# EAGLE library part LTM4609MPV#PBF (library gwu_mpnl_ucat_v10)
Per LTC Datasheet 4609fe LTM4609 (c) Samudra Haque, N3RDX, 2/23/2014
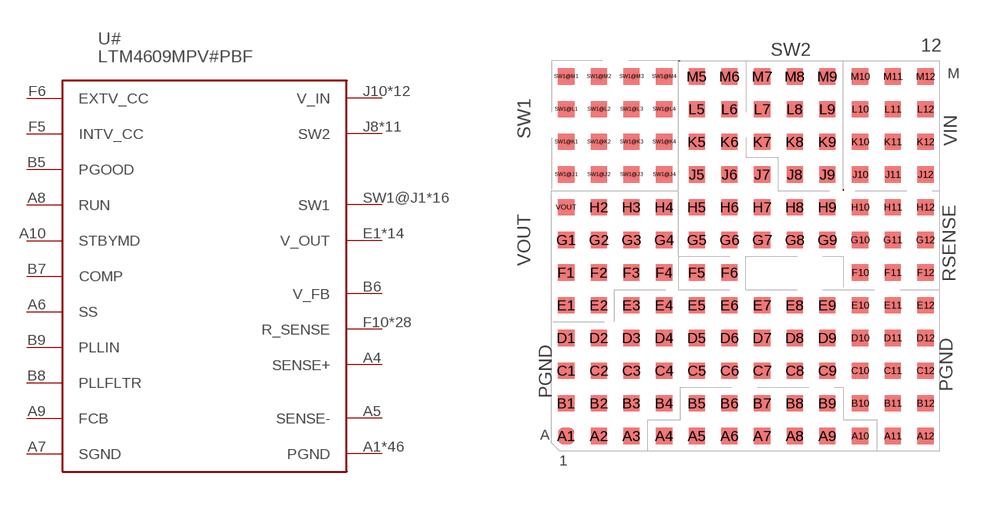
[diagram p3: symbol with the pads of LGA-141-LTC-05-08-1840-B; footprint LGA-141-LTC-05-08-1840-B]

Designator prefix U#

## LTM4609MPV#PBFROHS/HITEMP  [LGA-141-LTC-05-08-1840-B]
A1  PGND
A2  PGND
A3  PGND
A4  SENSE+
A5  SENSE-
A6  SS
A7  SGND
A8  RUN
A9  FCB
A10  STBYMD
A11  PGND
A12  PGND
B1  PGND
B2  PGND
B3  PGND
B4  PGND
B5  PGOOD
B6  V_FB
B7  COMP
B8  PLLFLTR
B9  PLLIN
B10  PGND
B11  PGND
B12  PGND
C1  PGND
C2  PGND
C3  PGND
C4  PGND
C5  PGND
C6  PGND
C7  PGND
C8  PGND
C9  PGND
C10  PGND
C11  PGND
C12  PGND
D1  PGND
D2  PGND
D3  PGND
D4  PGND
D5  PGND
D6  PGND
D7  PGND
D8  PGND
D9  PGND
D10  PGND
D11  PGND
D12  PGND
E1  V_OUT
E2  V_OUT
E3  PGND
E4  PGND
E5  PGND
E6  PGND
E7  PGND
E8  PGND
E9  PGND
E10  PGND
E11  PGND
E12  PGND
F1  V_OUT
F2  V_OUT
F3  V_OUT
F4  V_OUT
F5  INTV_CC
F6  EXTV_CC
F10  R_SENSE
F11  R_SENSE
F12  R_SENSE
G1  V_OUT
G2  V_OUT
G3  V_OUT
G4  V_OUT
G5  R_SENSE
G6  R_SENSE
G7  R_SENSE
G8  R_SENSE
G9  R_SENSE
G10  R_SENSE
G11  R_SENSE
G12  R_SENSE
H2  V_OUT
H3  V_OUT
H4  V_OUT
H5  R_SENSE
H6  R_SENSE
H7  R_SENSE
H8  R_SENSE
H9  R_SENSE
H10  R_SENSE
H11  R_SENSE
H12  R_SENSE
J5  R_SENSE
J6  R_SENSE
J7  R_SENSE
J8  SW2
J9  SW2
J10  V_IN
J11  V_IN
J12  V_IN
K5  R_SENSE
K6  R_SENSE
K7  SW2
K8  SW2
K9  SW2
K10  V_IN
K11  V_IN
K12  V_IN
L5  R_SENSE
L6  R_SENSE
L7  SW2
L8  SW2
L9  SW2
L10  V_IN
L11  V_IN
L12  V_IN
M5  R_SENSE
M6  R_SENSE
M7  SW2
M8  SW2
M9  SW2
M10  V_IN
M11  V_IN
M12  V_IN
SW1@J1  SW1
SW1@J2  SW1
SW1@J3  SW1
SW1@J4  SW1
SW1@K1  SW1
SW1@K2  SW1
SW1@K3  SW1
SW1@K4  SW1
SW1@L1  SW1
SW1@L2  SW1
SW1@L3  SW1
SW1@L4  SW1
SW1@M1  SW1
SW1@M2  SW1
SW1@M3  SW1
SW1@M4  SW1
VOUT  V_OUT

## Footprint LGA-141-LTC-05-08-1840-B (pad centres in mm)
smd 0.63 x 0.63: A1 0.567,0.565; A2 1.837,0.565; A3 3.107,0.565; A4 4.377,0.565; A5 5.647,0.565; A6 6.917,0.565; A7 8.187,0.565; A8 9.457,0.565; A9 10.727,0.565; A10 11.997,0.565; A11 13.267,0.565; A12 14.537,0.565; B1 0.567,1.835; B2 1.837,1.835; B3 3.107,1.835; B4 4.377,1.835; B5 5.647,1.835; B6 6.917,1.835; B7 8.187,1.835; B8 9.457,1.835; B9 10.727,1.835; B10 11.997,1.835; B11 13.267,1.835; B12 14.537,1.835; C1 0.567,3.105; C2 1.837,3.105; C3 3.107,3.105; C4 4.377,3.105; C5 5.647,3.105; C6 6.917,3.105; C7 8.187,3.105; C8 9.457,3.105; C9 10.727,3.105; C10 11.997,3.105; C11 13.267,3.105; C12 14.537,3.105; D1 0.567,4.375; D2 1.837,4.375; D3 3.107,4.375; D4 4.377,4.375; D5 5.647,4.375; D6 6.917,4.375; D7 8.187,4.375; D8 9.457,4.375; D9 10.727,4.375; D10 11.997,4.375; D11 13.267,4.375; D12 14.537,4.375; E1 0.567,5.645; E2 1.837,5.645; E3 3.107,5.645; E4 4.377,5.645; E5 5.647,5.645; E6 6.917,5.645; E7 8.187,5.645; E8 9.457,5.645; E9 10.727,5.645; E10 11.997,5.645; E11 13.267,5.645; E12 14.537,5.645; F1 0.567,6.915; F2 1.837,6.915; F3 3.107,6.915; F4 4.377,6.915; F5 5.647,6.915; F6 6.917,6.915; F10 11.997,6.915; F11 13.267,6.915; F12 14.537,6.915; G1 0.567,8.185; G2 1.837,8.185; G3 3.107,8.185; G4 4.377,8.185; G5 5.647,8.185; G6 6.917,8.185; G7 8.187,8.185; G8 9.457,8.185; G9 10.727,8.185; G10 11.997,8.185; G11 13.267,8.185; G12 14.537,8.185; H2 1.837,9.455; H3 3.107,9.455; H4 4.377,9.455; H5 5.647,9.455; H6 6.917,9.455; H7 8.187,9.455; H8 9.457,9.455; H9 10.727,9.455; H10 11.997,9.455; H11 13.267,9.455; H12 14.537,9.455; J5 5.647,10.725; J6 6.917,10.725; J7 8.187,10.725; J8 9.457,10.725; J9 10.727,10.725; J10 11.997,10.725; J11 13.267,10.725; J12 14.537,10.725; K5 5.647,11.995; K6 6.917,11.995; K7 8.187,11.995; K8 9.457,11.995; K9 10.727,11.995; K10 11.997,11.995; K11 13.267,11.995; K12 14.537,11.995; L5 5.647,13.265; L6 6.917,13.265; L7 8.187,13.265; L8 9.457,13.265; L9 10.727,13.265; L10 11.997,13.265; L11 13.267,13.265; L12 14.537,13.265; M5 5.647,14.535; M6 6.917,14.535; M7 8.187,14.535; M8 9.457,14.535; M9 10.727,14.535; M10 11.997,14.535; M11 13.267,14.535; M12 14.537,14.535; SW1@J1 0.567,10.725; SW1@J2 1.837,10.725; SW1@J3 3.107,10.725; SW1@J4 4.377,10.725; SW1@K1 0.567,11.995; SW1@K2 1.837,11.995; SW1@K3 3.107,11.995; SW1@K4 4.377,11.995; SW1@L1 0.567,13.265; SW1@L2 1.837,13.265; SW1@L3 3.107,13.265; SW1@L4 4.377,13.265; SW1@M1 0.567,14.535; SW1@M2 1.837,14.535; SW1@M3 3.107,14.535; SW1@M4 4.377,14.535; VOUT 0.567,9.455